# EAGLE library part I__4052 (library ..SMD)
Dual 4-channel ANALOG MULTIPLEXER
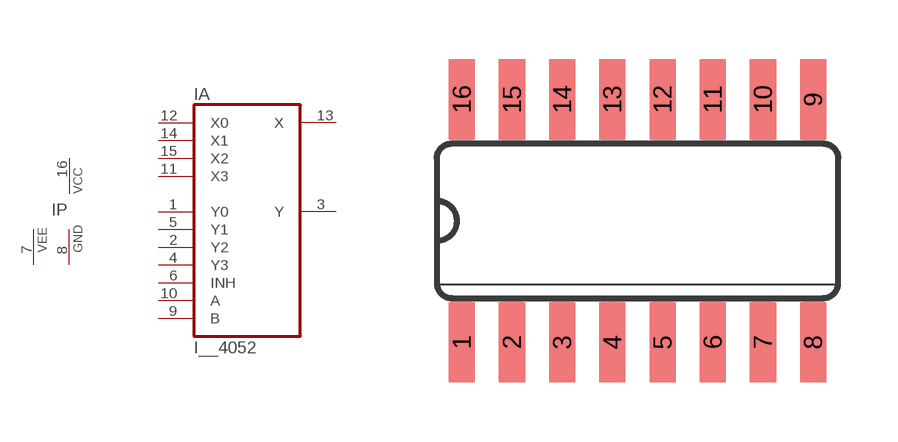
[diagram p51: symbol with the pads of SO16; footprint SO16]

Designator prefix I; gates A=4052 P=PWR+VEE

## I__4052D  [SO16]
1  A:Y0
2  A:Y2
3  A:Y
4  A:Y3
5  A:Y1
6  A:INH  in
7  P:VEE  pwr
8  P:GND  pwr
9  A:B  in
10  A:A  in
11  A:X3
12  A:X0
13  A:X
14  A:X1
15  A:X2
16  P:VCC  pwr

## Footprint SO16 (pad centres in mm)
Small Outline Package 16
smd 0.66 x 2.032: 1 -4.445,-3.073; 2 -3.175,-3.073; 3 -1.905,-3.073; 4 -0.635,-3.073; 5 0.635,-3.073; 6 1.905,-3.073; 7 3.175,-3.073; 8 4.445,-3.073; 9 4.445,3.073; 10 3.175,3.073; 11 1.905,3.073; 12 0.635,3.073; 13 -0.635,3.073; 14 -1.905,3.073; 15 -3.175,3.073; 16 -4.445,3.073